# Altium schematic symbol library BuckLib.SchLib: 1 symbol
Pins are listed as number, name and electrical type; pins without a type are passive.

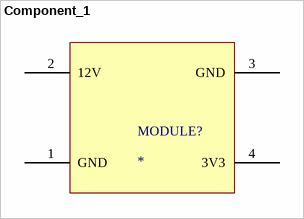
[diagram p0: symbol Component_1]

## Component_1
designator MODULE?
Buck Converter module
footprint Buck Converter Modulo (modulo entero de conversor Buck)
pins: 1 GND , 2 12V, 3 GND, 4 3V3